# EAGLE library part HMC5883L (library glacsweb)
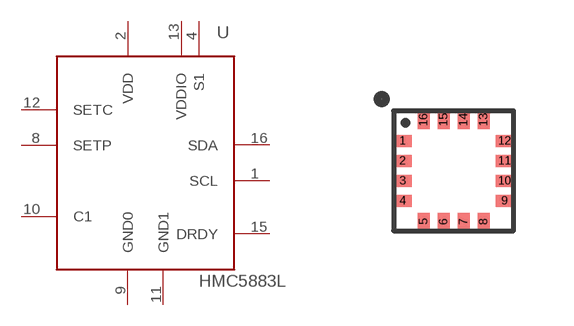
[diagram p6: symbol with the pads of LPCC-16; footprint LPCC-16]

Designator prefix -

## HMC5883L (MANUFACTURER: HONEYWELL; MPN: HMC5883L-TR; OC_FARNEL: 1971743; PACKAGE: LPCC16)  [LPCC-16]
1  SCL
2  VDD  pwr
4  S1
8  SETP
9  GND0  pwr
10  C1
11  GND1  pwr
12  SETC
13  VDDIO  pwr
15  DRDY  out
16  SDA

## Footprint LPCC-16 (pad centres in mm)
smd 0.45 x 0.3: 1 -1.275,0.75; 2 -1.275,0.25; 3 -1.275,-0.25; 4 -1.275,-0.75; 9 1.275,-0.75; 10 1.275,-0.25; 11 1.275,0.25; 12 1.275,0.75
smd 0.3 x 0.45: 5 -0.75,-1.275; 6 -0.25,-1.275; 7 0.25,-1.275; 8 0.75,-1.275; 13 0.75,1.275; 14 0.25,1.275; 15 -0.25,1.275; 16 -0.75,1.275